# EAGLE library part ATOTH-GCONTROLLER (library SolarCarMotors)
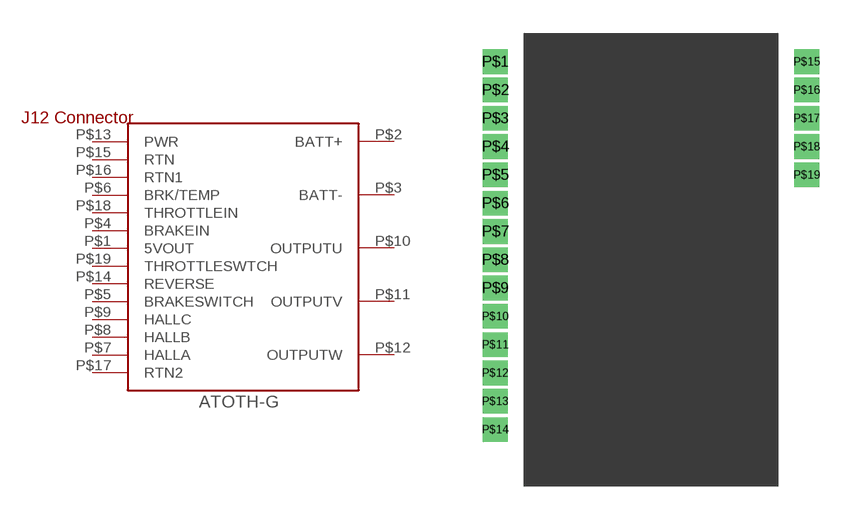
[diagram p1: symbol with the pads of ATOTH-GCONTROLLER; footprint ATOTH-GCONTROLLER]

Designator prefix -

## ATOTH-GCONTROLLER  [ATOTH-GCONTROLLER]
P$1  5VOUT
P$2  BATT+
P$3  BATT-
P$4  BRAKEIN
P$5  BRAKESWITCH
P$6  BRK/TEMP
P$7  HALLA
P$8  HALLB
P$9  HALLC
P$10  OUTPUTU
P$11  OUTPUTV
P$12  OUTPUTW
P$13  PWR
P$14  REVERSE
P$15  RTN
P$16  RTN1
P$17  RTN2
P$18  THROTTLEIN
P$19  THROTTLESWTCH

## Footprint ATOTH-GCONTROLLER (pad centres in mm)
drill 0.6 square: P$1 -17.78,8.89; P$2 -17.78,7.62; P$3 -17.78,6.35; P$4 -17.78,5.08; P$5 -17.78,3.81; P$6 -17.78,2.54; P$7 -17.78,1.27; P$8 -17.78,0; P$9 -17.78,-1.27; P$10 -17.78,-2.54; P$11 -17.78,-3.81; P$12 -17.78,-5.08; P$13 -17.78,-6.35; P$14 -17.78,-7.62; P$15 -3.81,8.89; P$16 -3.81,7.62; P$17 -3.81,6.35; P$18 -3.81,5.08; P$19 -3.81,3.81